# Altium integrated library SS14M.IntLib: 1 symbol
Pins are listed as number, name and electrical type; pins without a type are passive.

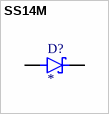
[diagram p0: symbol SS14M]

## SS14M
designator D?
MP: SS14M; Package: None; Value: *; Price: None; Availability: Unavailable
footprint SODFL2512X73N
pins: A, C K